# EAGLE library part CD74HC138 (library Kas-Buffers & Level Shifters)
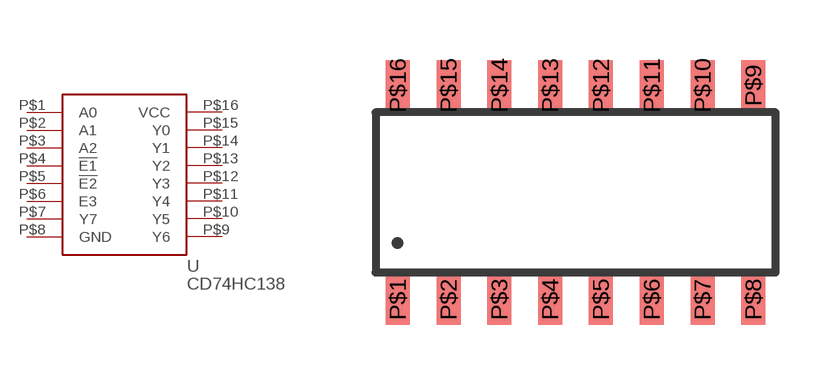
[diagram p1: symbol with the pads of SOIC-16; footprint SOIC-16]

Designator prefix -

## CD74HC138  [SOIC-16]
P$1  A0
P$2  A1
P$3  A2
P$4  !E1
P$5  !E2
P$6  E3
P$7  Y7
P$8  GND
P$9  Y6
P$10  Y5
P$11  Y4
P$12  Y3
P$13  Y2
P$14  Y1
P$15  Y0
P$16  VCC

## Footprint SOIC-16 (pad centres in mm)
smd 0.6 x 1.27: P$1 -4.445,-2.675; P$2 -3.175,-2.675; P$3 -1.905,-2.675; P$4 -0.635,-2.675; P$5 0.635,-2.675; P$6 1.905,-2.675; P$7 3.175,-2.675; P$8 4.445,-2.675; P$9 4.445,2.675; P$10 3.175,2.675; P$11 1.905,2.675; P$12 0.635,2.675; P$13 -0.635,2.675; P$14 -1.905,2.675; P$15 -3.175,2.675; P$16 -4.445,2.675